# Altium footprint library PcbLib2.PcbLib: 3 footprints
Each footprint in its own frame and in the unit in brackets; x right, y up, seen from the top. Pads: shape width x height; smd on the part's side, far side on the other; paste and mask are expansions set on the pad; w line width, h text height; cw(c..) or ccw(c..) is an arc to the next point about the centre after c.
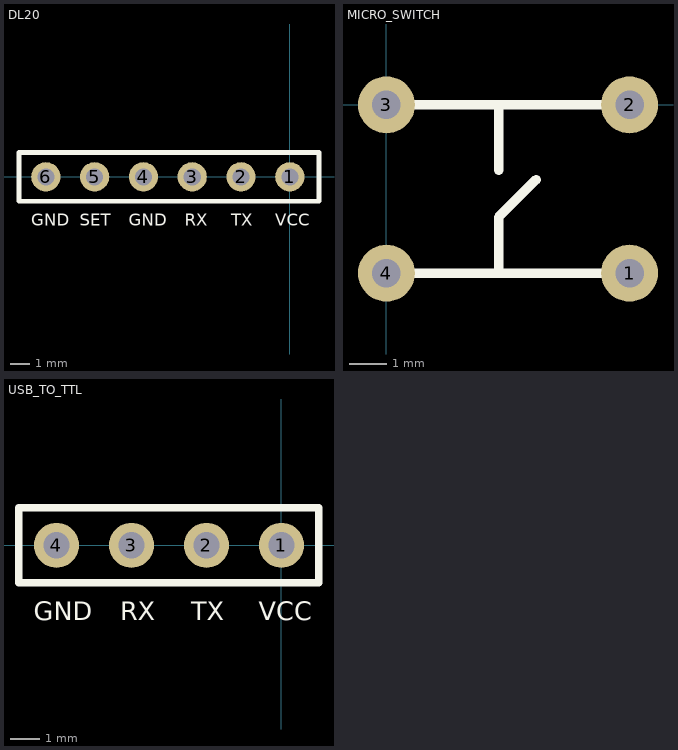
[diagram p0: the footprints below, top view; thin cyan lines are the x and y axes]

## DL20 [mil]
pads (6):
  round 60 hole 35: 1(0,0) 2(-100,0) 3(-200,0) 4(-300,0) 5(-400,0) 6(-500,0)
Top Overlay:
  lines w10: -555,-50 -555,50 59.84,50 59.84,-50 -555,-50
  text "GND" at -530,-100 h25
  text "SET" at -430,-100 h25
  text "GND" at -330,-100 h25
  text "RX" at -215,-100 h25
  text "TX" at -120,-100 h25
  text "VCC" at -30,-100 h25
3D body "zl262-6s_p2-54_l15-7_w2-54_h8-5.stp": height 334.65, standoff -118.11, extent -559.84,-50 59.84,50

## MICRO_SWITCH [mil]
pads (4):
  round 60 hole 30: 1(255.91,-177.17) 2(255.91,0) 3(0,0) 4(0,-177.17)
Top Overlay:
  lines w10: 0,-177.17 255.91,-177.17 ; 0,0 255.91,0 ; 118.11,-177.17 118.11,-118.11 ; 118.11,-68.9 118.11,0 ; 157.48,-78.74 118.11,-118.11 ; 118.11,-118.11 118.11,-118.11
3D body "Tactal Switch -Thru (6mmx 6mmx6.0mm).stp": height 239, standoff -125.17, extent -36.46,-206.58 292.38,29.42

## USB_TO_TTL [mil]
pads (4):
  round 60 hole 35: 1(0,0) 2(-100,0) 3(-200,0) 4(-300,0)
Top Overlay:
  lines w10: -350,-50 50,-50 50,50 -350,50 -350,-50
  text "GND" at -330,-100 h25
  text "RX" at -215,-100 h25
  text "TX" at -120,-100 h25
  text "VCC" at -30,-100 h25
3D body "Header, Male, 2.54mm, 1x4.STEP": height 336.22, standoff -118.11, extent -350,-50 50,50